# EAGLE library part 8_PIN_HEADER (library fablab)
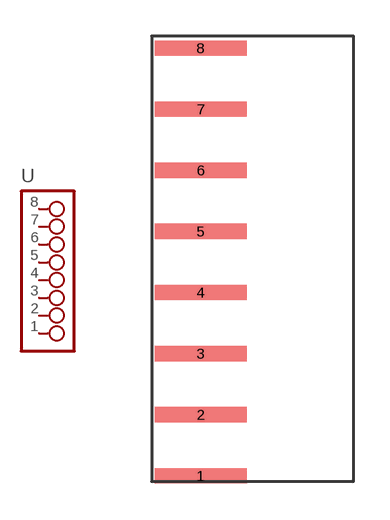
[diagram p4: symbol with the pads of SMT_PINS_8; footprint SMT_PINS_8]

Designator prefix -

## 8_PIN_HEADERHEADER  [SMT_PINS_8]
1  1
2  2
3  3
4  4
5  5
6  6
7  7
8  8

## Footprint SMT_PINS_8 (pad centres in mm)
smd 3.81 x 0.635: 1 0,0; 2 0,2.54; 3 0,5.08; 4 0,7.62; 5 0,10.16; 6 0,12.7; 7 0,15.24; 8 0,17.78